# Altium footprint library VBT6.PcbLib: 26 footprints (part 2 of 2)
Each footprint in its own frame and in the unit in brackets; x right, y up, seen from the top. Pads: shape width x height; smd on the part's side, far side on the other; paste and mask are expansions set on the pad; w line width, h text height; cw(c..) or ccw(c..) is an arc to the next point about the centre after c.
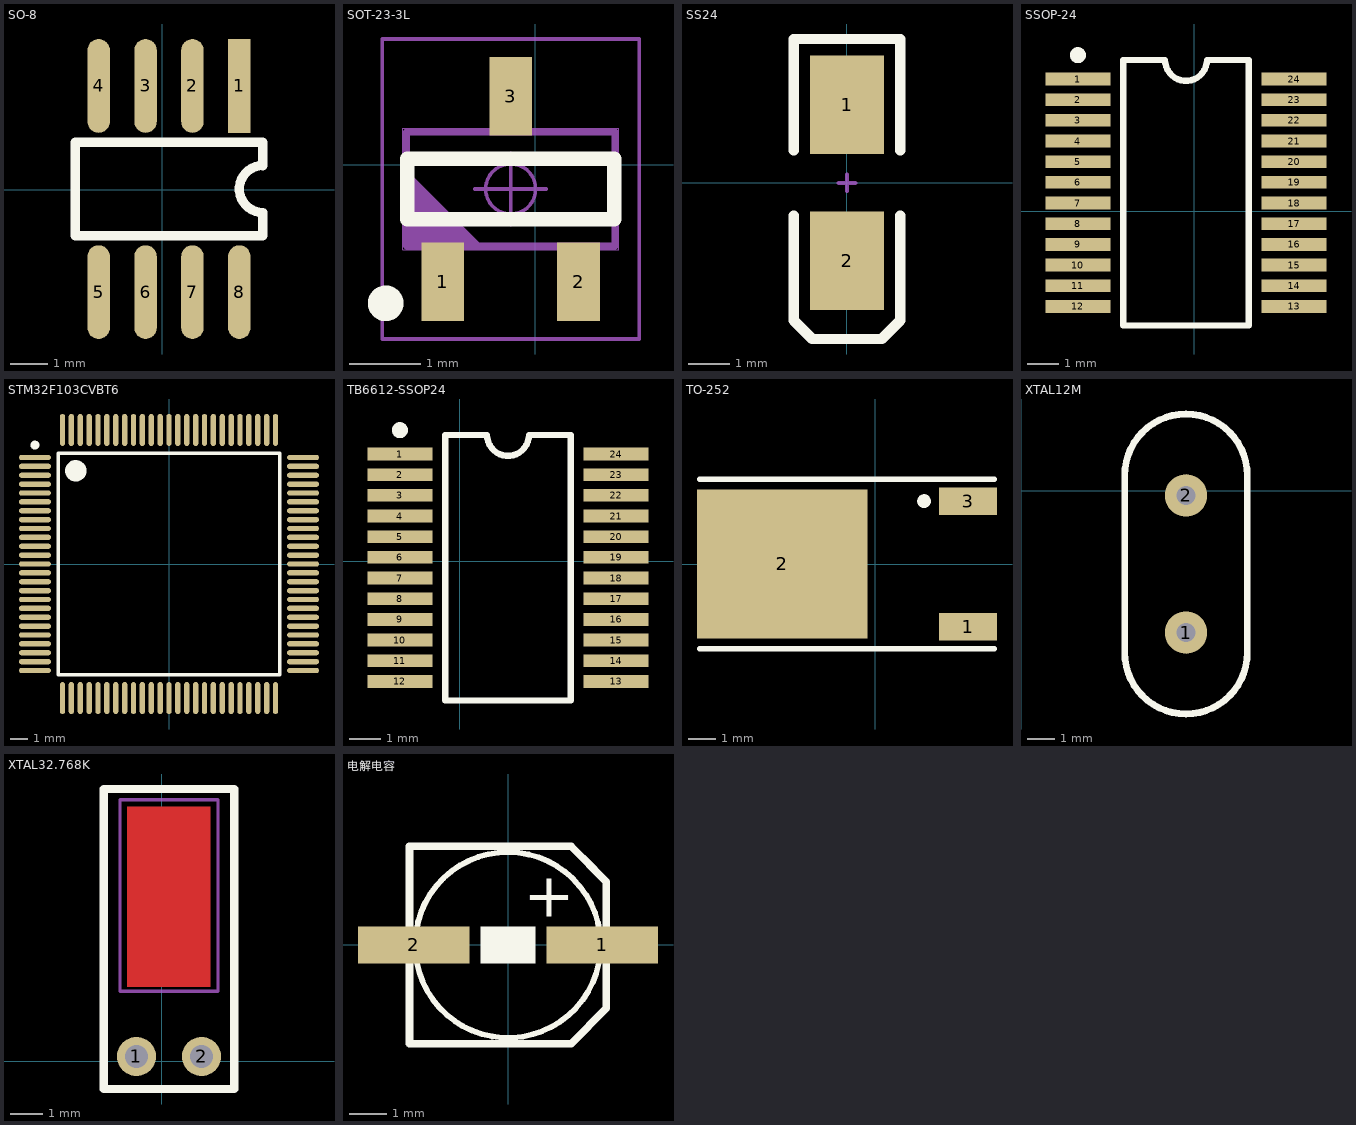
[diagram p1: the footprints below, top view; thin cyan lines are the x and y axes]

## SO-8 [mil]
pads (8):
  rect 24x100 smd: 1(82,111)
  oval 24x100 smd: 2(32,111) 3(-18,111) 4(-68,111) 5(-68,-109) 6(-18,-109) 7(32,-109) 8(82,-109)
Top Overlay:
  lines w10: -93,-49 107,-49 107,-24 cw(c107,1) 107,26 107,51 -93,51 -93,-49

## SOT-23-3L [mm]
pads (3):
  rect 0.6x1.1 smd: 1(-1.293,-1.636) 2(0.607,-1.636) 3(-0.343,0.964)
Top Overlay:
  circle w0.25: c-2.093,-1.936 r0.125
  lines w0.2: -1.793,-0.761 1.107,-0.761 1.107,0.089 -1.793,0.089 -1.793,-0.761
Mechanical 1:
  lines w0.1: -1.803,-1.036 -1.703,-1.136 ; -1.803,-0.936 -1.603,-1.136 ; -1.803,-0.836 -1.503,-1.136 ; -1.803,-0.736 -1.403,-1.136 ; -1.803,-0.636 -1.303,-1.136 ; -1.803,-0.536 -1.203,-1.136 ; -1.803,-0.436 -1.103,-1.136 ; -1.803,-0.336 -1.003,-1.136 ; -1.803,-0.236 -0.903,-1.136 ; -1.803,-0.136 -0.803,-1.136 ; -1.803,-1.136 1.117,-1.136 1.117,0.464 -1.803,0.464 -1.803,-1.136
  text "U1" at 0.071,0.024 h0.6
Mechanical 16:
  circle w0.05: c-0.343,-0.336 r0.35
  lines w0.001: -1.853,-1.186 1.167,-1.186 1.167,0.514 -1.853,0.514 -1.853,-1.186
  lines w0.05: -0.843,-0.336 0.157,-0.336 ; -0.343,-0.836 -0.343,0.164 ; -2.143,-2.436 1.457,-2.436 1.457,1.764 -2.143,1.764 -2.143,-2.436

## SS24 [mm]
pads (2):
  rect 1.8x2.4 smd: 1(0,1.898) 2(0,-1.898)
Top Overlay:
  lines w0.254: -1.3,-0.798 -1.3,-3.348 -0.85,-3.798 0.85,-3.798 1.3,-3.348 1.3,-0.798 ; -1.3,0.798 -1.3,3.498 1.3,3.498 1.3,0.798
Mechanical 1:
  lines w0.1: -0.2,0 0.2,0 ; 0,-0.2 0,0.2

## SSOP-24 [mm]
pads (24):
  rect 2.05x0.4 smd: 1(-3.654,4.159) 2(-3.654,3.509) 3(-3.654,2.859) 4(-3.654,2.209) 5(-3.654,1.559) 6(-3.654,0.909) 7(-3.654,0.259) 8(-3.654,-0.391) 9(-3.654,-1.041) 10(-3.654,-1.691) 11(-3.654,-2.341) 12(-3.654,-2.991) 13(3.146,-2.991) 14(3.146,-2.341) 15(3.146,-1.691) 16(3.146,-1.041) 17(3.146,-0.391) 18(3.146,0.259) 19(3.146,0.909) 20(3.146,1.559) 21(3.146,2.209) 22(3.146,2.859) 23(3.146,3.509) 24(3.146,4.159)
Top Overlay:
  circle w0.25: c-3.654,4.909 r0.125
  lines w0.2: -2.229,-3.591 1.721,-3.591 1.721,4.759 0.404,4.759 cw(c-0.254,4.759) -0.912,4.759 -2.229,4.759 -2.229,-3.591

## STM32F103CVBT6 [mm]
pads (100):
  oval 1.8x0.3 smd: 1(-7.55,6) 2(-7.55,5.5) 3(-7.55,5) 4(-7.55,4.5) 5(-7.55,4) 6(-7.55,3.5) 7(-7.55,3) 8(-7.55,2.5) 9(-7.55,2) 10(-7.55,1.5) 11(-7.55,1) 12(-7.55,0.5) 13(-7.55,0) 14(-7.55,-0.5) 15(-7.55,-1) 16(-7.55,-1.5) 17(-7.55,-2) 18(-7.55,-2.5) 19(-7.55,-3) 20(-7.55,-3.5) 21(-7.55,-4) 22(-7.55,-4.5) 23(-7.55,-5) 24(-7.55,-5.5) 25(-7.55,-6) 51(7.55,-6) 52(7.55,-5.5) 53(7.55,-5) 54(7.55,-4.5) 55(7.55,-4) 56(7.55,-3.5) 57(7.55,-3) 58(7.55,-2.5) 59(7.55,-2) 60(7.55,-1.5) 61(7.55,-1) 62(7.55,-0.5) 63(7.55,0) 64(7.55,0.5) 65(7.55,1) 66(7.55,1.5) 67(7.55,2) 68(7.55,2.5) 69(7.55,3) 70(7.55,3.5) 71(7.55,4) 72(7.55,4.5) 73(7.55,5) 74(7.55,5.5) 75(7.55,6)
  oval 0.3x1.8 smd: 26(-6,-7.55) 27(-5.5,-7.55) 28(-5,-7.55) 29(-4.5,-7.55) 30(-4,-7.55) 31(-3.5,-7.55) 32(-3,-7.55) 33(-2.5,-7.55) 34(-2,-7.55) 35(-1.5,-7.55) 36(-1,-7.55) 37(-0.5,-7.55) 38(0,-7.55) 39(0.5,-7.55) 40(1,-7.55) 41(1.5,-7.55) 42(2,-7.55) 43(2.5,-7.55) 44(3,-7.55) 45(3.5,-7.55) 46(4,-7.55) 47(4.5,-7.55) 48(5,-7.55) 49(5.5,-7.55) 50(6,-7.55) 76(6,7.55) 77(5.5,7.55) 78(5,7.55) 79(4.5,7.55) 80(4,7.55) 81(3.5,7.55) 82(3,7.55) 83(2.5,7.55) 84(2,7.55) 85(1.5,7.55) 86(1,7.55) 87(0.5,7.55) 88(0,7.55) 89(-0.5,7.55) 90(-1,7.55) 91(-1.5,7.55) 92(-2,7.55) 93(-2.5,7.55) 94(-3,7.55) 95(-3.5,7.55) 96(-4,7.55) 97(-4.5,7.55) 98(-5,7.55) 99(-5.5,7.55) 100(-6,7.55)
Top Overlay:
  circle w0.25: c-7.55,6.7 r0.125
  circle w0.6: c-5.25,5.25 r0.3
  lines w0.2: -6.25,-6.25 -6.25,6.25 6.25,6.25 6.25,-6.25 -6.25,-6.25

## TB6612-SSOP24 [mm]
pads (24):
  rect 2.05x0.4 smd: 1(-1.876,3.372) 2(-1.876,2.722) 3(-1.876,2.072) 4(-1.876,1.422) 5(-1.876,0.772) 6(-1.876,0.122) 7(-1.876,-0.528) 8(-1.876,-1.178) 9(-1.876,-1.828) 10(-1.876,-2.478) 11(-1.876,-3.128) 12(-1.876,-3.778) 13(4.924,-3.778) 14(4.924,-3.128) 15(4.924,-2.478) 16(4.924,-1.828) 17(4.924,-1.178) 18(4.924,-0.528) 19(4.924,0.122) 20(4.924,0.772) 21(4.924,1.422) 22(4.924,2.072) 23(4.924,2.722) 24(4.924,3.372)
Top Overlay:
  circle w0.25: c-1.876,4.122 r0.125
  lines w0.2: -0.451,-4.378 3.499,-4.378 3.499,3.972 2.182,3.972 cw(c1.524,3.972) 0.866,3.972 -0.451,3.972 -0.451,-4.378

## TO-252 [mm]
pads (3):
  rect 2.1x1 smd: 1(3.375,-2.285) 3(3.375,2.285)
  rect 6.2x5.4 smd: 2(-3.375,0)
Top Overlay:
  circle w0.25: c1.775,2.285 r0.125
  lines w0.2: -6.375,-3.085 4.325,-3.085 ; -6.375,3.085 4.325,3.085

## XTAL12M [mil]
pads (2):
  round 62 hole 28: 1(241,-207) 2(241,-7)
Top Overlay:
  lines w10: 151.63,-236.53 ccw(c241,-236.53) 330.37,-236.53 ; 151.63,22.53 cw(c241,22.53) 330.37,22.53 ; 151.7,-236.53 151.7,23.53 ; 330.35,-242 330.35,28

## XTAL32.768K [mm]
pads (2):
  round 1.2 hole 0.711: 1(-0.771,0.152) 2(1.229,0.152)
Top Layer:
  rectangle: -1.067,2.286 1.499,7.823
Top Overlay:
  lines w0.254: -1.771,-0.848 -1.771,8.357 2.229,8.357 2.229,-0.848 -1.771,-0.848
Mechanical 1:
  lines w0.1: -1.271,2.152 1.729,2.152 1.729,8.026 -1.271,8.026 -1.271,2.152

## 电解电容 [mm]
pads (2):
  rect 3x1 smd: 1(2.54,0) 2(-2.54,0)
Top Overlay:
  region: 0.739,0.499 -0.743,0.499 -0.743,-0.501 0.739,-0.501
  lines w0.152: -2.176,-1.235 cw(c-0.003,0) -2.174,-1.239
  lines w0.203: -2.653,-2.654 -2.653,2.654 ; -2.653,2.654 1.696,2.654 1.697,2.654 2.645,1.706 ; -2.651,-2.656 1.696,-2.656 ; 2.021,2.33 2.645,1.706 ; 1.696,-2.656 1.697,-2.655 ; 1.697,-2.655 2.645,-1.707 2.645,1.706
  text "+" at 1.794,1.777 h1.2